# Altium integrated library NSC Automotive Relay Timer Driver.IntLib: 4 symbols
Pins are listed as number, name and electrical type; pins without a type are passive.

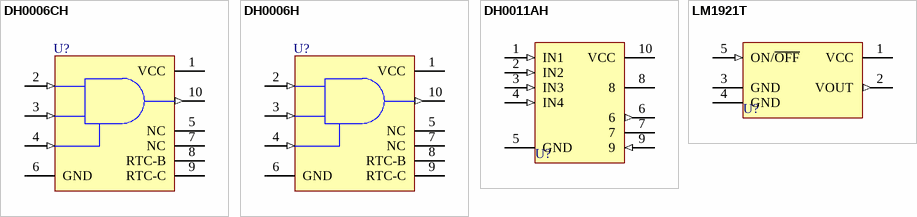
[diagram p0: symbols DH0006CH to LM1921T]

## DH0006CH
designator U?
Current Driver; Published: 15-Apr-2002; DatasheetVersion: Feb-1995; PackageVersion: 1995; PackageReference: H10F; Publisher: Altium Limited; PackageDescription: Can; 10 Leads; Pin Circle Dia. 5.84 mm; Lead Dia. 0.48 mm (max); ComponentLink1Description: Manufacturer Link; ComponentLink1URL: http://www.national.com/
footprint H10F (Can; 10 Leads; Pin Circle Dia. 5.84 mm; Lead Dia. 0.48 mm (max))
pins: 1 VCC (power), 2 IN (in), 3 IN (in), 4 EXPNDER (in), 5 NC, 6 GND (power), 7 NC, 8 RTC-B, 9 RTC-C, 10 OUT (out)

## DH0006H
designator U?
Current Driver; ComponentAvailability: Obsolete; Published: 15-Apr-2002; DatasheetVersion: Feb-1995; PackageVersion: 1995; PackageReference: H10F; Publisher: Altium Limited; PackageDescription: Can; 10 Leads; Pin Circle Dia. 5.84 mm; Lead Dia. 0.48 mm (max); ComponentLink1Description: Manufacturer Link; ComponentLink1URL: http://www.national.com/; ComponentLink2Description: Discontinuation Notice; ComponentLink2URL: http://www.national.com/obs/obsolescence.txt
footprint H10F (Can; 10 Leads; Pin Circle Dia. 5.84 mm; Lead Dia. 0.48 mm (max))
pins: 1 VCC (power), 2 IN (in), 3 IN (in), 4 EXPNDER (in), 5 NC, 6 GND (power), 7 NC, 8 RTC-B, 9 RTC-C, 10 OUT (out)

## DH0011AH
designator U?
High-Voltage High-Current Driver; Published: 15-Apr-2002; DatasheetVersion: Jun-1984; PackageVersion: 2000; PackageReference: H10C; Publisher: Altium Limited; PackageDescription: Can; 10 Leads; Pin Circle Dia. 5.84 mm; Lead Dia. 0.48 mm (max); ComponentLink1Description: Manufacturer Link; ComponentLink1URL: http://www.national.com/; ComponentLink2Description: Datasheet; ComponentLink2URL: http://www.national.com/ds.cgi/DH/DH0011A.pdf; ComponentLink3Description: URL Link1; ComponentLink3URL: http://www.national.com/pf/DH/DH0011A.html
footprint H10C (Can; 10 Leads; Pin Circle Dia. 5.84 mm; Lead Dia. 0.48 mm (max))
pins: 1 IN1 (in), 2 IN2 (in), 3 IN3 (in), 4 IN4 (in), 5 GND (power), 6 (out), 7 (power), 8 (oc), 9 (in), 10 VCC (power)

## LM1921T
designator U?
Amp Industrial Switch; ComponentAvailability: Obsolete; Published: 15-Apr-2002; DatasheetVersion: Feb-1995; PackageVersion: 2000; PackageReference: T05A; Publisher: Altium Limited; PackageDescription: TO, Thru-Hole, Vertical, Heatsink Mounted; 5 In-Line Leads; Pitch 1.70 mm; Code_JEDEC: TS-001-AA; ComponentLink1Description: Manufacturer Link; ComponentLink1URL: http://www.national.com/; ComponentLink2Description: Datasheet; ComponentLink2URL: http://www.national.com/ds.cgi/LM/LM1921.pdf; ComponentLink3Description: Discontinuation Notice; ComponentLink3URL: http://www.national.com/obs/obsolescence.txt; ComponentLink4Description: URL Link1; ComponentLink4URL: http://www.national.com/pf/LM/LM1921.html
footprint T05A (TO, Thru-Hole, Vertical, Heatsink Mounted; 5 In-Line Leads; Pitch 1.70 mm)
pins: 1 VCC (power), 2 VOUT (out), 3 GND (power), 4 GND (power), 5 ON/~{OFF} (in)